# EAGLE library part PIC24FJ*GA702 (library BW-Active)
16-bit Microcontroller, 16KB RAM, 28 pin
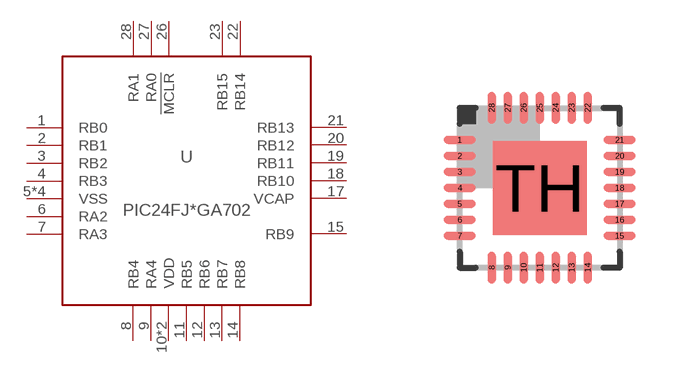
[diagram p25: symbol with the pads of UQFN28_4X4MM; footprint UQFN28_4X4MM]

Designator prefix U

## PIC24FJ*GA702-MV, PIC24FJ128GA702-MV, PIC24FJ256GA702-MV, PIC24FJ64GA702-MV  [UQFN28_4X4MM]
1  RB0
2  RB1
3  RB2
4  RB3
5  VSS
6  RA2
7  RA3
8  RB4
9  RA4
10  VDD
11  RB5
12  RB6
13  RB7
14  RB8
15  RB9
16  VSS
17  VCAP
18  RB10
19  RB11
20  RB12
21  RB13
22  RB14
23  RB15
24  VSS
25  VDD
26  !MCLR
27  RA0
28  RA1
TH  VSS

## Footprint UQFN28_4X4MM (pad centres in mm)
28-Lead Platic Ultra Thin Quad Flat, No Lead Package (MV) - 4x4x0.5 mm Body [UQFN] Source: PIC16F1516.pdf
smd 0.8 x 0.2: 1 -2,1.2; 2 -2,0.8; 3 -2,0.4; 4 -2,0; 5 -2,-0.4; 6 -2,-0.8; 7 -2,-1.2; 15 2,-1.2; 16 2,-0.8; 17 2,-0.4; 18 2,0; 19 2,0.4; 20 2,0.8; 21 2,1.2
smd 0.2 x 0.8: 8 -1.2,-2; 9 -0.8,-2; 10 -0.4,-2; 11 0,-2; 12 0.4,-2; 13 0.8,-2; 14 1.2,-2; 22 1.2,2; 23 0.8,2; 24 0.4,2; 25 0,2; 26 -0.4,2; 27 -0.8,2; 28 -1.2,2
smd 2.35 x 2.35: TH 0,0